# Altium integrated library Linear Technology Power Management Hot Swap Controllers.IntLib: 992 symbols (part 8 of 93)
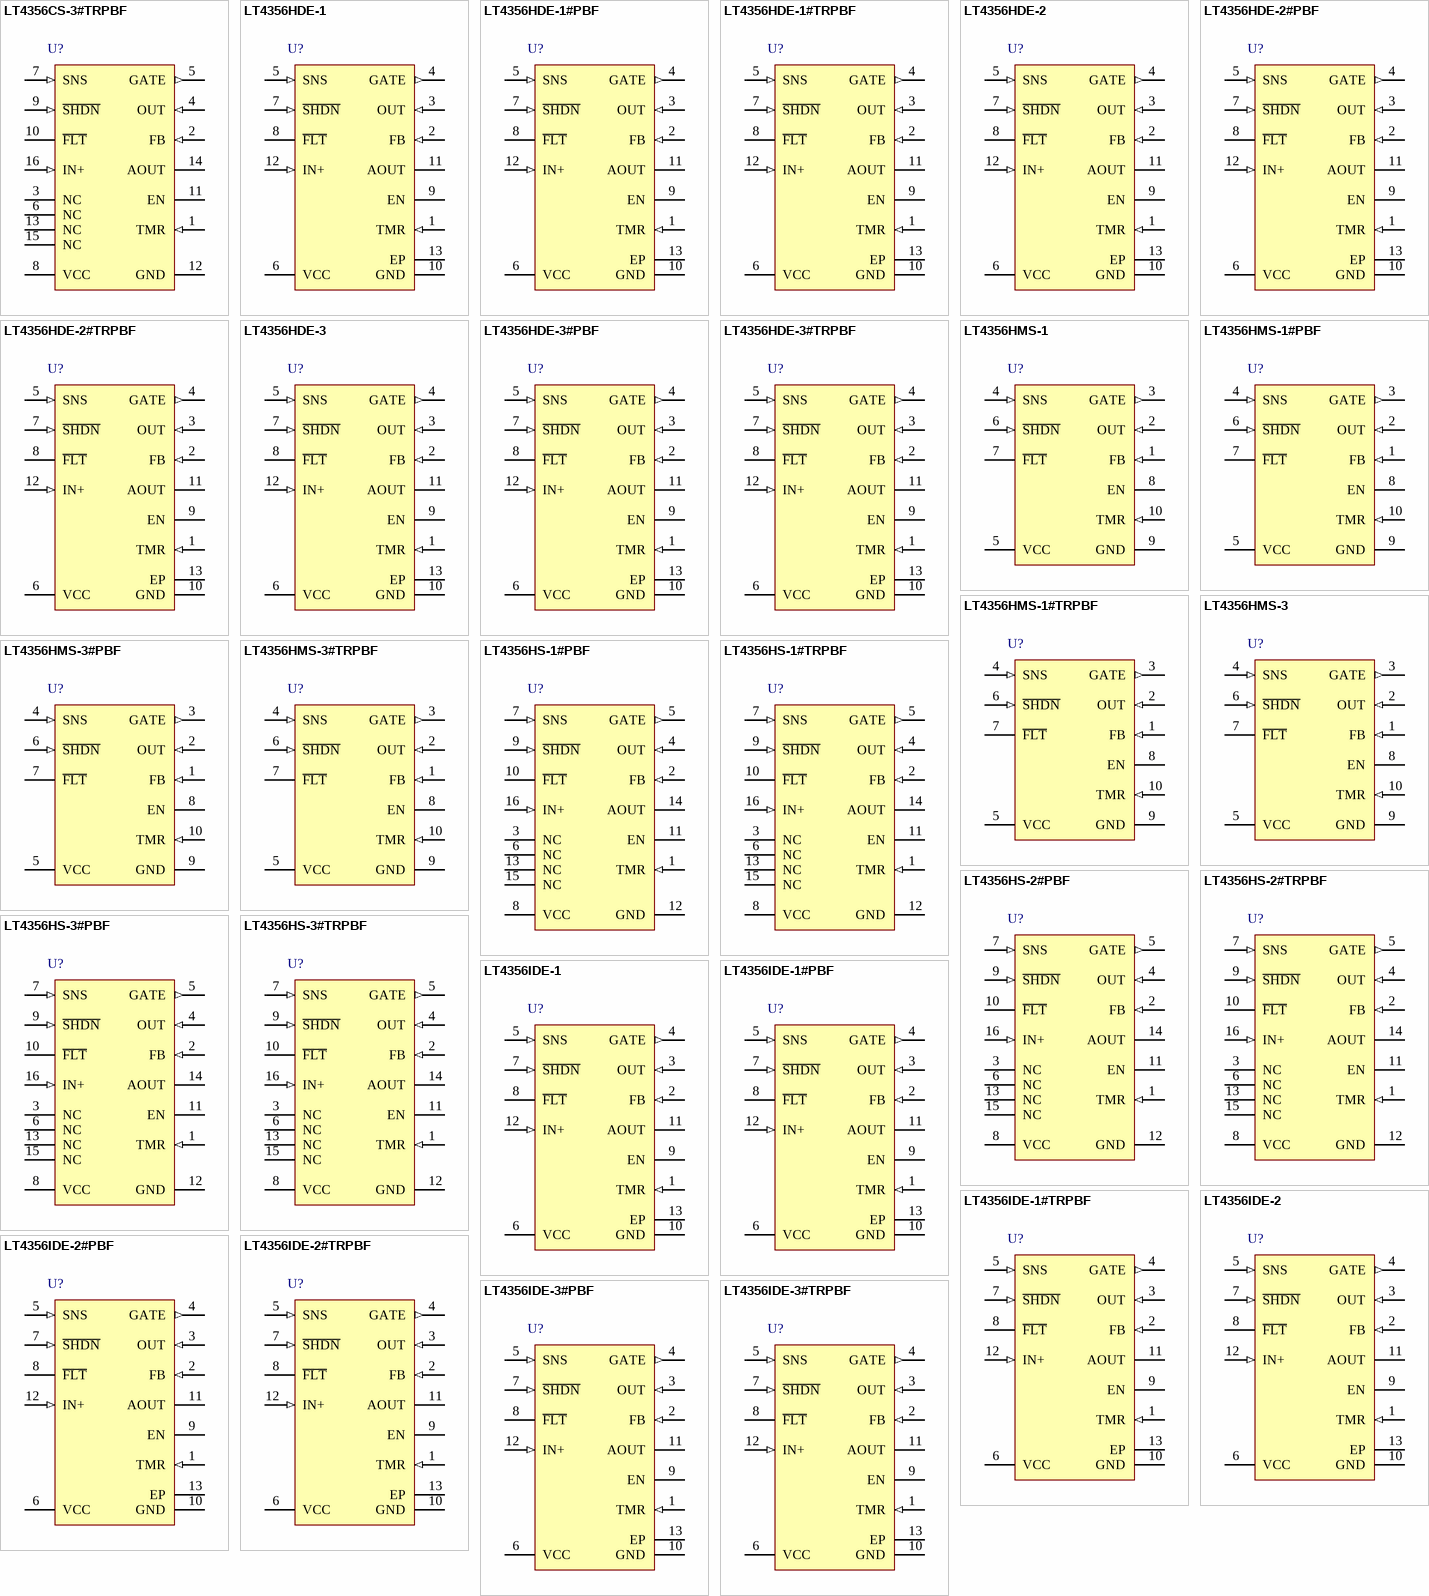
[diagram p44: symbols LT4356CS-3#TRPBF to LT4356IDE-3#TRPBF]

## LT4356HDE-2
designator U?
Surge Stopper, 4 to 80 V Vin, 12-pin SON (DE-UE-12), -40 to 125 degC; Manufacturer: Linear Technology; PartNumber: LT4356HDE-2; Active Limiting: yes; Circuit Breaker Accuracy(%): 10; Circuit Breaker Threshold: 50 mV; Circuit Breakers(#): 1; Extended Temp: C, I, H; Fast Comparator: no; In-Rush Current: Ramp; Vin Range: 4 to 80 V; DatasheetVersion: Rev. A; PackageVersion: Rev. D, 06/2010; PackageReference: DE-UE-12; PackageDescription: 12-Pin Plastic DFN, Body 4 x 3 mm, Pitch 0.5 mm; Supplier 1: Newark; Supplier Part Number 1: 51P4644; Fault: no; Foldback: yes; Power Good: no; Reset: no; RoHS: FALSE; Mounting Technology: Surface Mount; Code_JEDEC: MO-229; ComponentLink1Description: Manufacturer URL; ComponentLink1URL: http://www.linear.com/; ComponentLink2Description: Datasheet; ComponentLink2URL: http://cds.linear.com/docs/en/datasheet/4356fa.pdf; ComponentLink3Description: Package Specification; ComponentLink3URL: http://cds.linear.com/docs/en/packaging/DFN_12_05-08-1695.pdf
footprint LT-DE-UE-12_V (SON, 12-Leads, Body 4x3mm, Pitch 0.5mm, Thermal Pad 3.3x1.7mm)
pins: 1 TMR (in) "Fault Timer Input. Connect a capacitor between this pin and ground to set the times for early warning, fault and cool down periods. The current charging up this pin during fault conditions depends on the voltage difference (See Datasheet)", 2 FB (in) "Voltage Regulator Feedback Input. Connect this pin to the center tap of the output resistive divider connected between the OUT pin and ground. During an overvoltage condition, the GATE pin is servoed to maintain a 1.25V (See Datasheet)", 3 OUT (in) "Output Voltage Sense Input. This pin senses the voltage at the source of the N-channel MOSFET and sets the fault timer current. When the OUT pin voltage reaches 0.7V away from VCC, the EN pin goes high impedance.", 4 GATE (out) "N-Channel MOSFET Gate Drive Output. The GATE pin is pulled up by an internal charge pump current source and clamped to 14V above the OUT pin. Both voltage and current amplifiers control the GATE pin to regulate the output (See Datasheet)", 5 SNS (in) "Current Sense Input. Connect this pin to the output of the current sense resistor. The current limit circuit controls the GATE pin to limit the sense voltage between VCC and SNS pins to 50mV. At the same time the sense (See Datasheet)", 6 VCC (power) "Positive Supply Voltage Input.", 7 ~{SHDN} (in) "Shutdown Control Input. The LT4356 can be shut down to a low current mode by pulling the S\H\D\N\ pin below 0.4V. Pull this pin above 2.1V or disconnect it and allow the internal current source to turn the part back on. The (See Datasheet)", 8 ~{FLT} (hiz) "Open-Collector Fault Output. This pin pulls low after the voltage at the TMR pin has reached the fault threshold of 1.25V. It indicates the pass transistor is about to turn off because either the supply voltage has stayed at (See Datasheet)", 9 EN (hiz) "Open-Collector Enable Output. The EN pin goes high impedance when the voltage at the OUT pin is above (VCC - 0.7V), indicating the external MOSFET is fully on.", 10 GND (power) "Device Ground.", 11 AOUT (oc) "Amplifier Output. Open collector output of the auxiliary amplifier. It is capable of sinking up to 2mA from 80V. The negative input of the amplifier is internally connected to a 1.25V reference.", 12 IN+ (in) "Positive Input of the Auxiliary Amplifier. This amplifier can be used as a level detection comparator with external hysteresis or linear regulator controlling an external PNP transistor. This pin is clamped internally to 7V. (See Datasheet)", 13 EP (power) "Exposed pad may be left open or connected to device ground (GND)."

## LT4356HDE-2#PBF
designator U?
Surge Stopper, 4 to 80 V Vin, 12-pin SON (DE-UE-12), -40 to 125 degC, Pb-Free; Manufacturer: Linear Technology; PartNumber: LT4356HDE-2#PBF; Active Limiting: yes; Circuit Breaker Accuracy(%): 10; Circuit Breaker Threshold: 50 mV; Circuit Breakers(#): 1; Extended Temp: C, I, H; Fast Comparator: no; In-Rush Current: Ramp; Vin Range: 4 to 80 V; DatasheetVersion: Rev. A; PackageVersion: Rev. D, 06/2010; PackageReference: DE-UE-12; PackageDescription: 12-Pin Plastic DFN, Body 4 x 3 mm, Pitch 0.5 mm; Supplier 1: Digi-Key; Supplier Part Number 1: LT4356HDE-2#PBF-ND; Supplier 2: Farnell; Supplier Part Number 2: 2295311; Supplier 3: Newark; Supplier Part Number 3: 51P4645; Fault: no; Foldback: yes; Power Good: no; Reset: no; RoHS: TRUE; Mounting Technology: Surface Mount; Code_JEDEC: MO-229; ComponentLink1Description: Manufacturer URL; ComponentLink1URL: http://www.linear.com/; ComponentLink2Description: Datasheet; ComponentLink2URL: http://cds.linear.com/docs/en/datasheet/4356fa.pdf; ComponentLink3Description: Package Specification; ComponentLink3URL: http://cds.linear.com/docs/en/packaging/DFN_12_05-08-1695.pdf
footprint LT-DE-UE-12_V (SON, 12-Leads, Body 4x3mm, Pitch 0.5mm, Thermal Pad 3.3x1.7mm)
pins: 1 TMR (in) "Fault Timer Input. Connect a capacitor between this pin and ground to set the times for early warning, fault and cool down periods. The current charging up this pin during fault conditions depends on the voltage difference (See Datasheet)", 2 FB (in) "Voltage Regulator Feedback Input. Connect this pin to the center tap of the output resistive divider connected between the OUT pin and ground. During an overvoltage condition, the GATE pin is servoed to maintain a 1.25V (See Datasheet)", 3 OUT (in) "Output Voltage Sense Input. This pin senses the voltage at the source of the N-channel MOSFET and sets the fault timer current. When the OUT pin voltage reaches 0.7V away from VCC, the EN pin goes high impedance.", 4 GATE (out) "N-Channel MOSFET Gate Drive Output. The GATE pin is pulled up by an internal charge pump current source and clamped to 14V above the OUT pin. Both voltage and current amplifiers control the GATE pin to regulate the output (See Datasheet)", 5 SNS (in) "Current Sense Input. Connect this pin to the output of the current sense resistor. The current limit circuit controls the GATE pin to limit the sense voltage between VCC and SNS pins to 50mV. At the same time the sense (See Datasheet)", 6 VCC (power) "Positive Supply Voltage Input.", 7 ~{SHDN} (in) "Shutdown Control Input. The LT4356 can be shut down to a low current mode by pulling the S\H\D\N\ pin below 0.4V. Pull this pin above 2.1V or disconnect it and allow the internal current source to turn the part back on. The (See Datasheet)", 8 ~{FLT} (hiz) "Open-Collector Fault Output. This pin pulls low after the voltage at the TMR pin has reached the fault threshold of 1.25V. It indicates the pass transistor is about to turn off because either the supply voltage has stayed at (See Datasheet)", 9 EN (hiz) "Open-Collector Enable Output. The EN pin goes high impedance when the voltage at the OUT pin is above (VCC - 0.7V), indicating the external MOSFET is fully on.", 10 GND (power) "Device Ground.", 11 AOUT (oc) "Amplifier Output. Open collector output of the auxiliary amplifier. It is capable of sinking up to 2mA from 80V. The negative input of the amplifier is internally connected to a 1.25V reference.", 12 IN+ (in) "Positive Input of the Auxiliary Amplifier. This amplifier can be used as a level detection comparator with external hysteresis or linear regulator controlling an external PNP transistor. This pin is clamped internally to 7V. (See Datasheet)", 13 EP (power) "Exposed pad may be left open or connected to device ground (GND)."

## LT4356HDE-2#TRPBF
designator U?
Surge Stopper, 4 to 80 V Vin, 12-pin SON (DE-UE-12), -40 to 125 degC, Pb-Free, Tape and Reel; Manufacturer: Linear Technology; PartNumber: LT4356HDE-2#TRPBF; Active Limiting: yes; Circuit Breaker Accuracy(%): 10; Circuit Breaker Threshold: 50 mV; Circuit Breakers(#): 1; Extended Temp: C, I, H; Fast Comparator: no; In-Rush Current: Ramp; Vin Range: 4 to 80 V; DatasheetVersion: Rev. A; PackageVersion: Rev. D, 06/2010; PackageReference: DE-UE-12; PackageDescription: 12-Pin Plastic DFN, Body 4 x 3 mm, Pitch 0.5 mm; Supplier 1: Digi-Key; Supplier Part Number 1: LT4356HDE-2#TRPBF-ND; Supplier 2: Newark; Supplier Part Number 2: 51P4646; Fault: no; Foldback: yes; Packing: Tape and Reel; Power Good: no; Reset: no; RoHS: TRUE; Mounting Technology: Surface Mount; Code_JEDEC: MO-229; ComponentLink1Description: Manufacturer URL; ComponentLink1URL: http://www.linear.com/; ComponentLink2Description: Datasheet; ComponentLink2URL: http://cds.linear.com/docs/en/datasheet/4356fa.pdf; ComponentLink3Description: Package Specification; ComponentLink3URL: http://cds.linear.com/docs/en/packaging/DFN_12_05-08-1695.pdf
footprint LT-DE-UE-12_V (SON, 12-Leads, Body 4x3mm, Pitch 0.5mm, Thermal Pad 3.3x1.7mm)
pins: 1 TMR (in) "Fault Timer Input. Connect a capacitor between this pin and ground to set the times for early warning, fault and cool down periods. The current charging up this pin during fault conditions depends on the voltage difference (See Datasheet)", 2 FB (in) "Voltage Regulator Feedback Input. Connect this pin to the center tap of the output resistive divider connected between the OUT pin and ground. During an overvoltage condition, the GATE pin is servoed to maintain a 1.25V (See Datasheet)", 3 OUT (in) "Output Voltage Sense Input. This pin senses the voltage at the source of the N-channel MOSFET and sets the fault timer current. When the OUT pin voltage reaches 0.7V away from VCC, the EN pin goes high impedance.", 4 GATE (out) "N-Channel MOSFET Gate Drive Output. The GATE pin is pulled up by an internal charge pump current source and clamped to 14V above the OUT pin. Both voltage and current amplifiers control the GATE pin to regulate the output (See Datasheet)", 5 SNS (in) "Current Sense Input. Connect this pin to the output of the current sense resistor. The current limit circuit controls the GATE pin to limit the sense voltage between VCC and SNS pins to 50mV. At the same time the sense (See Datasheet)", 6 VCC (power) "Positive Supply Voltage Input.", 7 ~{SHDN} (in) "Shutdown Control Input. The LT4356 can be shut down to a low current mode by pulling the S\H\D\N\ pin below 0.4V. Pull this pin above 2.1V or disconnect it and allow the internal current source to turn the part back on. The (See Datasheet)", 8 ~{FLT} (hiz) "Open-Collector Fault Output. This pin pulls low after the voltage at the TMR pin has reached the fault threshold of 1.25V. It indicates the pass transistor is about to turn off because either the supply voltage has stayed at (See Datasheet)", 9 EN (hiz) "Open-Collector Enable Output. The EN pin goes high impedance when the voltage at the OUT pin is above (VCC - 0.7V), indicating the external MOSFET is fully on.", 10 GND (power) "Device Ground.", 11 AOUT (oc) "Amplifier Output. Open collector output of the auxiliary amplifier. It is capable of sinking up to 2mA from 80V. The negative input of the amplifier is internally connected to a 1.25V reference.", 12 IN+ (in) "Positive Input of the Auxiliary Amplifier. This amplifier can be used as a level detection comparator with external hysteresis or linear regulator controlling an external PNP transistor. This pin is clamped internally to 7V. (See Datasheet)", 13 EP (power) "Exposed pad may be left open or connected to device ground (GND)."

## LT4356HDE-3
designator U?
Surge Stopper with Fault Latchoff, 4 to 80 V Vin, 12-pin SON (DE-UE-12), -40 to 125 degC; Manufacturer: Linear Technology; PartNumber: LT4356HDE-3; Active Limiting: yes; Circuit Breaker Accuracy(%): 10; Circuit Breaker Threshold: 50 mV; Circuit Breakers(#): 1; Extended Temp: C, I, H, MP; Fast Comparator: no; In-Rush Current: Ramp; Vin Range: 4 to 80 V; DatasheetVersion: Rev. B; PackageVersion: Rev. D, 06/2010; PackageReference: DE-UE-12; PackageDescription: 12-Pin Plastic DFN, Body 4 x 3 mm, Pitch 0.5 mm; Supplier 1: Digi-Key; Supplier Part Number 1: LT4356HDE-3-ND; Fault: no; Foldback: yes; Power Good: no; Reset: no; RoHS: FALSE; Mounting Technology: Surface Mount; Code_JEDEC: MO-229; ComponentLink1Description: Manufacturer URL; ComponentLink1URL: http://www.linear.com/; ComponentLink2Description: Datasheet; ComponentLink2URL: http://cds.linear.com/docs/en/datasheet/43563fb.pdf; ComponentLink3Description: Package Specification; ComponentLink3URL: http://cds.linear.com/docs/en/packaging/DFN_12_05-08-1695.pdf
footprint LT-DE-UE-12_V (SON, 12-Leads, Body 4x3mm, Pitch 0.5mm, Thermal Pad 3.3x1.7mm)
pins: 1 TMR (in) "TMR: Fault Timer Input. Connect a capacitor between this pin and ground to set the times for early warning and fault periods. The current charging up this pin during fault conditions depends on the voltage difference between (See Datasheet)", 2 FB (in) "FB: Voltage Regulator Feedback Input. Connect this pin to the center tap of the output resistive divider connected between the OUT pin and ground. During an overvoltage condition, the GATE pin is servoed to maintain a 1.25V (See Datasheet)", 3 OUT (in) "OUT: Output Voltage Sense Input. This pin senses the voltage at the source of the N-channel MOSFET and sets the fault timer current. When the OUT pin voltage reaches 0.7V away from VCC, the EN pin goes high impedance.", 4 GATE (out) "GATE: N-Channel MOSFET Gate Drive Output. The GATE pin is pulled up by an internal charge pump current source and clamped to 14V above the OUT pin. Both voltage and current amplifiers control the GATE pin to regulate the (See Datasheet)", 5 SNS (in) "SNS: Current Sense Input. Connect this pin to the output of the current sense resistor. The current limit circuit controls the GATE pin to limit the sense voltage between VCC and SNS pins to 50mV. At the same time the sense (See Datasheet)", 6 VCC (power) "VCC: Positive Supply Voltage Input. The positive supply input ranges from 4V to 80V for normal operation. It can also be pulled below ground potential by up to 60V during a reverse battery condition, without damaging the (See Datasheet)", 7 ~{SHDN} (in) "S\H\D\N\: Shutdown Control Input. The LT4356-3 can be shut down to a low current mode by pulling the S\H\D\N\ pin below the shutdown threshold of 0.4V. All functions, including the spare amplifier, are turned off. Pull this (See Datasheet)", 8 ~{FLT} (oc) "F\L\T\: Open-Collector Fault Output. This pin pulls low after the voltage at the TMR pin has reached the fault threshold of 1.25V. It indicates the pass transistor is about to turn off because either the supply voltage has (See Datasheet)", 9 EN (hiz) "EN: Open-Collector Enable Output. The EN pin goes high impedance when the voltage at the OUT pin is above (VCC - 0.7V), indicating the external MOSFET is fully on. The state of the pin is latched until the OUT pin voltage (See Datasheet)", 10 GND (power) "GND: Device Ground.", 11 AOUT (oc) "Amplifier Output. Open collector output of the auxiliary amplifier. It is capable of sinking up to 2mA from 80V. The negative input of the amplifier is internally connected to a 1.25V reference.", 12 IN+ (in) "Positive Input of the Auxiliary Amplifier. This amplifier can be used as a level detection comparator with external hysteresis or linear regulator controlling an external PNP transistor. This pin is clamped internally to 7V. (See Datasheet)", 13 EP (power) "Exposed pad may be left open or connected to device ground (GND)."

## LT4356HDE-3#PBF
designator U?
Surge Stopper with Fault Latchoff, 4 to 80 V Vin, 12-pin SON (DE-UE-12), -40 to 125 degC, Pb-Free; Manufacturer: Linear Technology; PartNumber: LT4356HDE-3#PBF; Active Limiting: yes; Circuit Breaker Accuracy(%): 10; Circuit Breaker Threshold: 50 mV; Circuit Breakers(#): 1; Extended Temp: C, I, H, MP; Fast Comparator: no; In-Rush Current: Ramp; Vin Range: 4 to 80 V; DatasheetVersion: Rev. B; PackageVersion: Rev. D, 06/2010; PackageReference: DE-UE-12; PackageDescription: 12-Pin Plastic DFN, Body 4 x 3 mm, Pitch 0.5 mm; Supplier 1: Digi-Key; Supplier Part Number 1: LT4356HDE-3#PBF-ND; Supplier 2: Farnell; Supplier Part Number 2: 2295312; Supplier 3: Farnell; Supplier Part Number 3: 1792372; Supplier 4: Newark; Supplier Part Number 4: 63R6873; Fault: no; Foldback: yes; Power Good: no; Reset: no; RoHS: TRUE; Mounting Technology: Surface Mount; Code_JEDEC: MO-229; ComponentLink1Description: Manufacturer URL; ComponentLink1URL: http://www.linear.com/; ComponentLink2Description: Datasheet; ComponentLink2URL: http://cds.linear.com/docs/en/datasheet/43563fb.pdf; ComponentLink3Description: Package Specification; ComponentLink3URL: http://cds.linear.com/docs/en/packaging/DFN_12_05-08-1695.pdf
footprint LT-DE-UE-12_V (SON, 12-Leads, Body 4x3mm, Pitch 0.5mm, Thermal Pad 3.3x1.7mm)
pins: 1 TMR (in) "TMR: Fault Timer Input. Connect a capacitor between this pin and ground to set the times for early warning and fault periods. The current charging up this pin during fault conditions depends on the voltage difference between (See Datasheet)", 2 FB (in) "FB: Voltage Regulator Feedback Input. Connect this pin to the center tap of the output resistive divider connected between the OUT pin and ground. During an overvoltage condition, the GATE pin is servoed to maintain a 1.25V (See Datasheet)", 3 OUT (in) "OUT: Output Voltage Sense Input. This pin senses the voltage at the source of the N-channel MOSFET and sets the fault timer current. When the OUT pin voltage reaches 0.7V away from VCC, the EN pin goes high impedance.", 4 GATE (out) "GATE: N-Channel MOSFET Gate Drive Output. The GATE pin is pulled up by an internal charge pump current source and clamped to 14V above the OUT pin. Both voltage and current amplifiers control the GATE pin to regulate the (See Datasheet)", 5 SNS (in) "SNS: Current Sense Input. Connect this pin to the output of the current sense resistor. The current limit circuit controls the GATE pin to limit the sense voltage between VCC and SNS pins to 50mV. At the same time the sense (See Datasheet)", 6 VCC (power) "VCC: Positive Supply Voltage Input. The positive supply input ranges from 4V to 80V for normal operation. It can also be pulled below ground potential by up to 60V during a reverse battery condition, without damaging the (See Datasheet)", 7 ~{SHDN} (in) "S\H\D\N\: Shutdown Control Input. The LT4356-3 can be shut down to a low current mode by pulling the S\H\D\N\ pin below the shutdown threshold of 0.4V. All functions, including the spare amplifier, are turned off. Pull this (See Datasheet)", 8 ~{FLT} (oc) "F\L\T\: Open-Collector Fault Output. This pin pulls low after the voltage at the TMR pin has reached the fault threshold of 1.25V. It indicates the pass transistor is about to turn off because either the supply voltage has (See Datasheet)", 9 EN (hiz) "EN: Open-Collector Enable Output. The EN pin goes high impedance when the voltage at the OUT pin is above (VCC - 0.7V), indicating the external MOSFET is fully on. The state of the pin is latched until the OUT pin voltage (See Datasheet)", 10 GND (power) "GND: Device Ground.", 11 AOUT (oc) "Amplifier Output. Open collector output of the auxiliary amplifier. It is capable of sinking up to 2mA from 80V. The negative input of the amplifier is internally connected to a 1.25V reference.", 12 IN+ (in) "Positive Input of the Auxiliary Amplifier. This amplifier can be used as a level detection comparator with external hysteresis or linear regulator controlling an external PNP transistor. This pin is clamped internally to 7V. (See Datasheet)", 13 EP (power) "Exposed pad may be left open or connected to device ground (GND)."

## LT4356HDE-3#TRPBF
designator U?
Surge Stopper with Fault Latchoff, 4 to 80 V Vin, 12-pin SON (DE-UE-12), -40 to 125 degC, Pb-Free, Tape and Reel; Manufacturer: Linear Technology; PartNumber: LT4356HDE-3#TRPBF; Active Limiting: yes; Circuit Breaker Accuracy(%): 10; Circuit Breaker Threshold: 50 mV; Circuit Breakers(#): 1; Extended Temp: C, I, H, MP; Fast Comparator: no; In-Rush Current: Ramp; Vin Range: 4 to 80 V; DatasheetVersion: Rev. B; PackageVersion: Rev. D, 06/2010; PackageReference: DE-UE-12; PackageDescription: 12-Pin Plastic DFN, Body 4 x 3 mm, Pitch 0.5 mm; Supplier 1: Digi-Key; Supplier Part Number 1: LT4356HDE-3#TRPBF-ND; Fault: no; Foldback: yes; Packing: Tape and Reel; Power Good: no; Reset: no; RoHS: TRUE; Mounting Technology: Surface Mount; Code_JEDEC: MO-229; ComponentLink1Description: Manufacturer URL; ComponentLink1URL: http://www.linear.com/; ComponentLink2Description: Datasheet; ComponentLink2URL: http://cds.linear.com/docs/en/datasheet/43563fb.pdf; ComponentLink3Description: Package Specification; ComponentLink3URL: http://cds.linear.com/docs/en/packaging/DFN_12_05-08-1695.pdf
footprint LT-DE-UE-12_V (SON, 12-Leads, Body 4x3mm, Pitch 0.5mm, Thermal Pad 3.3x1.7mm)
pins: 1 TMR (in) "TMR: Fault Timer Input. Connect a capacitor between this pin and ground to set the times for early warning and fault periods. The current charging up this pin during fault conditions depends on the voltage difference between (See Datasheet)", 2 FB (in) "FB: Voltage Regulator Feedback Input. Connect this pin to the center tap of the output resistive divider connected between the OUT pin and ground. During an overvoltage condition, the GATE pin is servoed to maintain a 1.25V (See Datasheet)", 3 OUT (in) "OUT: Output Voltage Sense Input. This pin senses the voltage at the source of the N-channel MOSFET and sets the fault timer current. When the OUT pin voltage reaches 0.7V away from VCC, the EN pin goes high impedance.", 4 GATE (out) "GATE: N-Channel MOSFET Gate Drive Output. The GATE pin is pulled up by an internal charge pump current source and clamped to 14V above the OUT pin. Both voltage and current amplifiers control the GATE pin to regulate the (See Datasheet)", 5 SNS (in) "SNS: Current Sense Input. Connect this pin to the output of the current sense resistor. The current limit circuit controls the GATE pin to limit the sense voltage between VCC and SNS pins to 50mV. At the same time the sense (See Datasheet)", 6 VCC (power) "VCC: Positive Supply Voltage Input. The positive supply input ranges from 4V to 80V for normal operation. It can also be pulled below ground potential by up to 60V during a reverse battery condition, without damaging the (See Datasheet)", 7 ~{SHDN} (in) "S\H\D\N\: Shutdown Control Input. The LT4356-3 can be shut down to a low current mode by pulling the S\H\D\N\ pin below the shutdown threshold of 0.4V. All functions, including the spare amplifier, are turned off. Pull this (See Datasheet)", 8 ~{FLT} (oc) "F\L\T\: Open-Collector Fault Output. This pin pulls low after the voltage at the TMR pin has reached the fault threshold of 1.25V. It indicates the pass transistor is about to turn off because either the supply voltage has (See Datasheet)", 9 EN (hiz) "EN: Open-Collector Enable Output. The EN pin goes high impedance when the voltage at the OUT pin is above (VCC - 0.7V), indicating the external MOSFET is fully on. The state of the pin is latched until the OUT pin voltage (See Datasheet)", 10 GND (power) "GND: Device Ground.", 11 AOUT (oc) "Amplifier Output. Open collector output of the auxiliary amplifier. It is capable of sinking up to 2mA from 80V. The negative input of the amplifier is internally connected to a 1.25V reference.", 12 IN+ (in) "Positive Input of the Auxiliary Amplifier. This amplifier can be used as a level detection comparator with external hysteresis or linear regulator controlling an external PNP transistor. This pin is clamped internally to 7V. (See Datasheet)", 13 EP (power) "Exposed pad may be left open or connected to device ground (GND)."

## LT4356HMS-1
designator U?
Surge Stopper, 4 to 80 V Vin, 10-pin SOP (MS-10), -40 to 125 degC; Manufacturer: Linear Technology; PartNumber: LT4356HMS-1; Active Limiting: yes; Circuit Breaker Accuracy(%): 10; Circuit Breaker Threshold: 50 mV; Circuit Breakers(#): 1; Extended Temp: C, I, H; Fast Comparator: no; In-Rush Current: Ramp; Vin Range: 4 to 80 V; DatasheetVersion: Rev. A; PackageVersion: Rev. E, 06/2010; PackageReference: MS-10; PackageDescription: 10-Pin Plastic MSOP, Body 3 x 3 mm, Pitch 0.5 mm; Supplier 1: Newark; Supplier Part Number 1: 57M8722; Fault: no; Foldback: yes; Power Good: no; Reset: no; RoHS: FALSE; Mounting Technology: Surface Mount; ComponentLink1Description: Manufacturer URL; ComponentLink1URL: http://www.linear.com/; ComponentLink2Description: Datasheet; ComponentLink2URL: http://cds.linear.com/docs/en/datasheet/4356fa.pdf; ComponentLink3Description: Package Specification; ComponentLink3URL: http://cds.linear.com/docs/en/packaging/05081661_F_MS.pdf
footprint LT-MS-10_N (SOP, 10-Leads, Body 3.1x3.1mm, Pitch 0.5mm, IPC Medium Density)
footprint LT-MS-10_L (SOP, 10-Leads, Body 3.1x3.1mm, Pitch 0.5mm, IPC High Density)
footprint LT-MS-10_M (SOP, 10-Leads, Body 3.1x3.1mm, Pitch 0.5mm, IPC Low Density)
pins: 1 FB (in) "Voltage Regulator Feedback Input. Connect this pin to the center tap of the output resistive divider connected between the OUT pin and ground. During an overvoltage condition, the GATE pin is servoed to maintain a 1.25V (See Datasheet)", 2 OUT (in) "Output Voltage Sense Input. This pin senses the voltage at the source of the N-channel MOSFET and sets the fault timer current. When the OUT pin voltage reaches 0.7V away from VCC, the EN pin goes high impedance.", 3 GATE (out) "N-Channel MOSFET Gate Drive Output. The GATE pin is pulled up by an internal charge pump current source and clamped to 14V above the OUT pin. Both voltage and current amplifiers control the GATE pin to regulate the output (See Datasheet)", 4 SNS (in) "Current Sense Input. Connect this pin to the output of the current sense resistor. The current limit circuit controls the GATE pin to limit the sense voltage between VCC and SNS pins to 50mV. At the same time the sense (See Datasheet)", 5 VCC (power) "Positive Supply Voltage Input. The positive supply input ranges from 4V to 80V for normal operation. It can also be pulled below ground potential by up to 60V during a reverse battery condition, without damaging the part. (See Datasheet)", 6 ~{SHDN} (in) "Shutdown Control Input. The LT4356 can be shut down to a low current mode by pulling the S\H\D\N\ pin below 0.4V. Pull this pin above 2.1V or disconnect it and allow the internal current source to turn the part back on. The (See Datasheet)", 7 ~{FLT} (hiz) "Open-Collector Fault Output. This pin pulls low after the voltage at the TMR pin has reached the fault threshold of 1.25V. It indicates the pass transistor is about to turn off because either the supply voltage has stayed at (See Datasheet)", 8 EN (hiz) "Open-Collector Enable Output. The EN pin goes high impedance when the voltage at the OUT pin is above (VCC - 0.7V), indicating the external MOSFET is fully on. The state of the pin is latched until the OUT pin voltage resets (See Datasheet)", 9 GND (power) "Device Ground.", 10 TMR (in) "Fault Timer Input. Connect a capacitor between this pin and ground to set the times for early warning, fault and cool down periods. The current charging up this pin during fault conditions depends on the voltage difference (See Datasheet)"

## LT4356HMS-1#PBF
designator U?
Surge Stopper, 4 to 80 V Vin, 10-pin SOP (MS-10), -40 to 125 degC, Pb-Free; Manufacturer: Linear Technology; PartNumber: LT4356HMS-1#PBF; Active Limiting: yes; Circuit Breaker Accuracy(%): 10; Circuit Breaker Threshold: 50 mV; Circuit Breakers(#): 1; Extended Temp: C, I, H; Fast Comparator: no; In-Rush Current: Ramp; Vin Range: 4 to 80 V; DatasheetVersion: Rev. A; PackageVersion: Rev. E, 06/2010; PackageReference: MS-10; PackageDescription: 10-Pin Plastic MSOP, Body 3 x 3 mm, Pitch 0.5 mm; Supplier 1: Digi-Key; Supplier Part Number 1: LT4356HMS-1#PBF-ND; Supplier 2: Farnell; Supplier Part Number 2: 1432703; Supplier 3: Newark; Supplier Part Number 3: 57M8723; Fault: no; Foldback: yes; Power Good: no; Reset: no; RoHS: TRUE; Mounting Technology: Surface Mount; ComponentLink1Description: Manufacturer URL; ComponentLink1URL: http://www.linear.com/; ComponentLink2Description: Datasheet; ComponentLink2URL: http://cds.linear.com/docs/en/datasheet/4356fa.pdf; ComponentLink3Description: Package Specification; ComponentLink3URL: http://cds.linear.com/docs/en/packaging/05081661_F_MS.pdf
footprint LT-MS-10_N (SOP, 10-Leads, Body 3.1x3.1mm, Pitch 0.5mm, IPC Medium Density)
footprint LT-MS-10_L (SOP, 10-Leads, Body 3.1x3.1mm, Pitch 0.5mm, IPC High Density)
footprint LT-MS-10_M (SOP, 10-Leads, Body 3.1x3.1mm, Pitch 0.5mm, IPC Low Density)
pins: 1 FB (in) "Voltage Regulator Feedback Input. Connect this pin to the center tap of the output resistive divider connected between the OUT pin and ground. During an overvoltage condition, the GATE pin is servoed to maintain a 1.25V (See Datasheet)", 2 OUT (in) "Output Voltage Sense Input. This pin senses the voltage at the source of the N-channel MOSFET and sets the fault timer current. When the OUT pin voltage reaches 0.7V away from VCC, the EN pin goes high impedance.", 3 GATE (out) "N-Channel MOSFET Gate Drive Output. The GATE pin is pulled up by an internal charge pump current source and clamped to 14V above the OUT pin. Both voltage and current amplifiers control the GATE pin to regulate the output (See Datasheet)", 4 SNS (in) "Current Sense Input. Connect this pin to the output of the current sense resistor. The current limit circuit controls the GATE pin to limit the sense voltage between VCC and SNS pins to 50mV. At the same time the sense (See Datasheet)", 5 VCC (power) "Positive Supply Voltage Input. The positive supply input ranges from 4V to 80V for normal operation. It can also be pulled below ground potential by up to 60V during a reverse battery condition, without damaging the part. (See Datasheet)", 6 ~{SHDN} (in) "Shutdown Control Input. The LT4356 can be shut down to a low current mode by pulling the S\H\D\N\ pin below 0.4V. Pull this pin above 2.1V or disconnect it and allow the internal current source to turn the part back on. The (See Datasheet)", 7 ~{FLT} (hiz) "Open-Collector Fault Output. This pin pulls low after the voltage at the TMR pin has reached the fault threshold of 1.25V. It indicates the pass transistor is about to turn off because either the supply voltage has stayed at (See Datasheet)", 8 EN (hiz) "Open-Collector Enable Output. The EN pin goes high impedance when the voltage at the OUT pin is above (VCC - 0.7V), indicating the external MOSFET is fully on. The state of the pin is latched until the OUT pin voltage resets (See Datasheet)", 9 GND (power) "Device Ground.", 10 TMR (in) "Fault Timer Input. Connect a capacitor between this pin and ground to set the times for early warning, fault and cool down periods. The current charging up this pin during fault conditions depends on the voltage difference (See Datasheet)"

## LT4356HMS-1#TRPBF
designator U?
Surge Stopper, 4 to 80 V Vin, 10-pin SOP (MS-10), -40 to 125 degC, Pb-Free, Tape and Reel; Manufacturer: Linear Technology; PartNumber: LT4356HMS-1#TRPBF; Active Limiting: yes; Circuit Breaker Accuracy(%): 10; Circuit Breaker Threshold: 50 mV; Circuit Breakers(#): 1; Extended Temp: C, I, H; Fast Comparator: no; In-Rush Current: Ramp; Vin Range: 4 to 80 V; DatasheetVersion: Rev. A; PackageVersion: Rev. E, 06/2010; PackageReference: MS-10; PackageDescription: 10-Pin Plastic MSOP, Body 3 x 3 mm, Pitch 0.5 mm; Supplier 1: Digi-Key; Supplier Part Number 1: LT4356HMS-1#TRPBF-ND; Supplier 2: Farnell; Supplier Part Number 2: 2115914; Supplier 3: Newark; Supplier Part Number 3: 57M8724; Fault: no; Foldback: yes; Packing: Tape and Reel; Power Good: no; Reset: no; RoHS: TRUE; Mounting Technology: Surface Mount; ComponentLink1Description: Manufacturer URL; ComponentLink1URL: http://www.linear.com/; ComponentLink2Description: Datasheet; ComponentLink2URL: http://cds.linear.com/docs/en/datasheet/4356fa.pdf; ComponentLink3Description: Package Specification; ComponentLink3URL: http://cds.linear.com/docs/en/packaging/05081661_F_MS.pdf
footprint LT-MS-10_N (SOP, 10-Leads, Body 3.1x3.1mm, Pitch 0.5mm, IPC Medium Density)
footprint LT-MS-10_L (SOP, 10-Leads, Body 3.1x3.1mm, Pitch 0.5mm, IPC High Density)
footprint LT-MS-10_M (SOP, 10-Leads, Body 3.1x3.1mm, Pitch 0.5mm, IPC Low Density)
pins: 1 FB (in) "Voltage Regulator Feedback Input. Connect this pin to the center tap of the output resistive divider connected between the OUT pin and ground. During an overvoltage condition, the GATE pin is servoed to maintain a 1.25V (See Datasheet)", 2 OUT (in) "Output Voltage Sense Input. This pin senses the voltage at the source of the N-channel MOSFET and sets the fault timer current. When the OUT pin voltage reaches 0.7V away from VCC, the EN pin goes high impedance.", 3 GATE (out) "N-Channel MOSFET Gate Drive Output. The GATE pin is pulled up by an internal charge pump current source and clamped to 14V above the OUT pin. Both voltage and current amplifiers control the GATE pin to regulate the output (See Datasheet)", 4 SNS (in) "Current Sense Input. Connect this pin to the output of the current sense resistor. The current limit circuit controls the GATE pin to limit the sense voltage between VCC and SNS pins to 50mV. At the same time the sense (See Datasheet)", 5 VCC (power) "Positive Supply Voltage Input. The positive supply input ranges from 4V to 80V for normal operation. It can also be pulled below ground potential by up to 60V during a reverse battery condition, without damaging the part. (See Datasheet)", 6 ~{SHDN} (in) "Shutdown Control Input. The LT4356 can be shut down to a low current mode by pulling the S\H\D\N\ pin below 0.4V. Pull this pin above 2.1V or disconnect it and allow the internal current source to turn the part back on. The (See Datasheet)", 7 ~{FLT} (hiz) "Open-Collector Fault Output. This pin pulls low after the voltage at the TMR pin has reached the fault threshold of 1.25V. It indicates the pass transistor is about to turn off because either the supply voltage has stayed at (See Datasheet)", 8 EN (hiz) "Open-Collector Enable Output. The EN pin goes high impedance when the voltage at the OUT pin is above (VCC - 0.7V), indicating the external MOSFET is fully on. The state of the pin is latched until the OUT pin voltage resets (See Datasheet)", 9 GND (power) "Device Ground.", 10 TMR (in) "Fault Timer Input. Connect a capacitor between this pin and ground to set the times for early warning, fault and cool down periods. The current charging up this pin during fault conditions depends on the voltage difference (See Datasheet)"

## LT4356HMS-3
designator U?
Surge Stopper with Fault Latchoff, 4 to 80 V Vin, 10-pin SOP (MS-10), -40 to 125 degC; Manufacturer: Linear Technology; PartNumber: LT4356HMS-3; Active Limiting: yes; Circuit Breaker Accuracy(%): 10; Circuit Breaker Threshold: 50 mV; Circuit Breakers(#): 1; Extended Temp: C, I, H, MP; Fast Comparator: no; In-Rush Current: Ramp; Vin Range: 4 to 80 V; DatasheetVersion: Rev. B; PackageVersion: Rev. E, 06/2010; PackageReference: MS-10; PackageDescription: 10-Pin Plastic MSOP, Body 3 x 3 mm, Pitch 0.5 mm; Fault: no; Foldback: yes; Power Good: no; Reset: no; RoHS: FALSE; Mounting Technology: Surface Mount; ComponentLink1Description: Manufacturer URL; ComponentLink1URL: http://www.linear.com/; ComponentLink2Description: Datasheet; ComponentLink2URL: http://cds.linear.com/docs/en/datasheet/43563fb.pdf; ComponentLink3Description: Package Specification; ComponentLink3URL: http://cds.linear.com/docs/en/packaging/05081661_F_MS.pdf
footprint LT-MS-10_N (SOP, 10-Leads, Body 3.1x3.1mm, Pitch 0.5mm, IPC Medium Density)
footprint LT-MS-10_L (SOP, 10-Leads, Body 3.1x3.1mm, Pitch 0.5mm, IPC High Density)
footprint LT-MS-10_M (SOP, 10-Leads, Body 3.1x3.1mm, Pitch 0.5mm, IPC Low Density)
pins: 1 FB (in) "FB: Voltage Regulator Feedback Input. Connect this pin to the center tap of the output resistive divider connected between the OUT pin and ground. During an overvoltage condition, the GATE pin is servoed to maintain a 1.25V (See Datasheet)", 2 OUT (in) "OUT: Output Voltage Sense Input. This pin senses the voltage at the source of the N-channel MOSFET and sets the fault timer current. When the OUT pin voltage reaches 0.7V away from VCC, the EN pin goes high impedance.", 3 GATE (out) "GATE: N-Channel MOSFET Gate Drive Output. The GATE pin is pulled up by an internal charge pump current source and clamped to 14V above the OUT pin. Both voltage and current amplifiers control the GATE pin to regulate the (See Datasheet)", 4 SNS (in) "SNS: Current Sense Input. Connect this pin to the output of the current sense resistor. The current limit circuit controls the GATE pin to limit the sense voltage between VCC and SNS pins to 50mV. At the same time the sense (See Datasheet)", 5 VCC (power) "VCC: Positive Supply Voltage Input. The positive supply input ranges from 4V to 80V for normal operation. It can also be pulled below ground potential by up to 60V during a reverse battery condition, without damaging the (See Datasheet)", 6 ~{SHDN} (in) "S\H\D\N\: Shutdown Control Input. The LT4356 can be shut down to a low current mode by pulling the S\H\D\N\ pin below 0.4V. Pull this pin above 2.1V or disconnect it and allow the internal current source to turn the part (See Datasheet)", 7 ~{FLT} (oc) "F\L\T\: Open-Collector Fault Output. This pin pulls low after the voltage at the TMR pin has reached the fault threshold of 1.25V. It indicates the pass transistor is about to turn off because either the supply voltage has (See Datasheet)", 8 EN (hiz) "EN: Open-Collector Enable Output. The EN pin goes high impedance when the voltage at the OUT pin is above (VCC - 0.7V), indicating the external MOSFET is fully on. The state of the pin is latched until the OUT pin voltage (See Datasheet)", 9 GND (power) "GND: Device Ground.", 10 TMR (in) "TMR: Fault Timer Input. Connect a capacitor between this pin and ground to set the times for early warning, fault and cool down periods. The current charging up this pin during fault conditions depends on the voltage (See Datasheet)"

## LT4356HMS-3#PBF
designator U?
Surge Stopper with Fault Latchoff, 4 to 80 V Vin, 10-pin SOP (MS-10), -40 to 125 degC, Pb-Free; Manufacturer: Linear Technology; PartNumber: LT4356HMS-3#PBF; Active Limiting: yes; Circuit Breaker Accuracy(%): 10; Circuit Breaker Threshold: 50 mV; Circuit Breakers(#): 1; Extended Temp: C, I, H, MP; Fast Comparator: no; In-Rush Current: Ramp; Vin Range: 4 to 80 V; DatasheetVersion: Rev. B; PackageVersion: Rev. E, 06/2010; PackageReference: MS-10; PackageDescription: 10-Pin Plastic MSOP, Body 3 x 3 mm, Pitch 0.5 mm; Supplier 1: Digi-Key; Supplier Part Number 1: LT4356HMS-3#PBF-ND; Supplier 2: Farnell; Supplier Part Number 2: 1839149; Supplier 3: Newark; Supplier Part Number 3: 63R6875; Fault: no; Foldback: yes; Power Good: no; Reset: no; RoHS: TRUE; Mounting Technology: Surface Mount; ComponentLink1Description: Manufacturer URL; ComponentLink1URL: http://www.linear.com/; ComponentLink2Description: Datasheet; ComponentLink2URL: http://cds.linear.com/docs/en/datasheet/43563fb.pdf; ComponentLink3Description: Package Specification; ComponentLink3URL: http://cds.linear.com/docs/en/packaging/05081661_F_MS.pdf
footprint LT-MS-10_N (SOP, 10-Leads, Body 3.1x3.1mm, Pitch 0.5mm, IPC Medium Density)
footprint LT-MS-10_L (SOP, 10-Leads, Body 3.1x3.1mm, Pitch 0.5mm, IPC High Density)
footprint LT-MS-10_M (SOP, 10-Leads, Body 3.1x3.1mm, Pitch 0.5mm, IPC Low Density)
pins: 1 FB (in) "FB: Voltage Regulator Feedback Input. Connect this pin to the center tap of the output resistive divider connected between the OUT pin and ground. During an overvoltage condition, the GATE pin is servoed to maintain a 1.25V (See Datasheet)", 2 OUT (in) "OUT: Output Voltage Sense Input. This pin senses the voltage at the source of the N-channel MOSFET and sets the fault timer current. When the OUT pin voltage reaches 0.7V away from VCC, the EN pin goes high impedance.", 3 GATE (out) "GATE: N-Channel MOSFET Gate Drive Output. The GATE pin is pulled up by an internal charge pump current source and clamped to 14V above the OUT pin. Both voltage and current amplifiers control the GATE pin to regulate the (See Datasheet)", 4 SNS (in) "SNS: Current Sense Input. Connect this pin to the output of the current sense resistor. The current limit circuit controls the GATE pin to limit the sense voltage between VCC and SNS pins to 50mV. At the same time the sense (See Datasheet)", 5 VCC (power) "VCC: Positive Supply Voltage Input. The positive supply input ranges from 4V to 80V for normal operation. It can also be pulled below ground potential by up to 60V during a reverse battery condition, without damaging the (See Datasheet)", 6 ~{SHDN} (in) "S\H\D\N\: Shutdown Control Input. The LT4356 can be shut down to a low current mode by pulling the S\H\D\N\ pin below 0.4V. Pull this pin above 2.1V or disconnect it and allow the internal current source to turn the part (See Datasheet)", 7 ~{FLT} (oc) "F\L\T\: Open-Collector Fault Output. This pin pulls low after the voltage at the TMR pin has reached the fault threshold of 1.25V. It indicates the pass transistor is about to turn off because either the supply voltage has (See Datasheet)", 8 EN (hiz) "EN: Open-Collector Enable Output. The EN pin goes high impedance when the voltage at the OUT pin is above (VCC - 0.7V), indicating the external MOSFET is fully on. The state of the pin is latched until the OUT pin voltage (See Datasheet)", 9 GND (power) "GND: Device Ground.", 10 TMR (in) "TMR: Fault Timer Input. Connect a capacitor between this pin and ground to set the times for early warning, fault and cool down periods. The current charging up this pin during fault conditions depends on the voltage (See Datasheet)"

## LT4356HMS-3#TRPBF
designator U?
Surge Stopper with Fault Latchoff, 4 to 80 V Vin, 10-pin SOP (MS-10), -40 to 125 degC, Pb-Free, Tape and Reel; Manufacturer: Linear Technology; PartNumber: LT4356HMS-3#TRPBF; Active Limiting: yes; Circuit Breaker Accuracy(%): 10; Circuit Breaker Threshold: 50 mV; Circuit Breakers(#): 1; Extended Temp: C, I, H, MP; Fast Comparator: no; In-Rush Current: Ramp; Vin Range: 4 to 80 V; DatasheetVersion: Rev. B; PackageVersion: Rev. E, 06/2010; PackageReference: MS-10; PackageDescription: 10-Pin Plastic MSOP, Body 3 x 3 mm, Pitch 0.5 mm; Supplier 1: Digi-Key; Supplier Part Number 1: LT4356HMS-3#TRPBF-ND; Fault: no; Foldback: yes; Packing: Tape and Reel; Power Good: no; Reset: no; RoHS: TRUE; Mounting Technology: Surface Mount; ComponentLink1Description: Manufacturer URL; ComponentLink1URL: http://www.linear.com/; ComponentLink2Description: Datasheet; ComponentLink2URL: http://cds.linear.com/docs/en/datasheet/43563fb.pdf; ComponentLink3Description: Package Specification; ComponentLink3URL: http://cds.linear.com/docs/en/packaging/05081661_F_MS.pdf
footprint LT-MS-10_N (SOP, 10-Leads, Body 3.1x3.1mm, Pitch 0.5mm, IPC Medium Density)
footprint LT-MS-10_L (SOP, 10-Leads, Body 3.1x3.1mm, Pitch 0.5mm, IPC High Density)
footprint LT-MS-10_M (SOP, 10-Leads, Body 3.1x3.1mm, Pitch 0.5mm, IPC Low Density)
pins: 1 FB (in) "FB: Voltage Regulator Feedback Input. Connect this pin to the center tap of the output resistive divider connected between the OUT pin and ground. During an overvoltage condition, the GATE pin is servoed to maintain a 1.25V (See Datasheet)", 2 OUT (in) "OUT: Output Voltage Sense Input. This pin senses the voltage at the source of the N-channel MOSFET and sets the fault timer current. When the OUT pin voltage reaches 0.7V away from VCC, the EN pin goes high impedance.", 3 GATE (out) "GATE: N-Channel MOSFET Gate Drive Output. The GATE pin is pulled up by an internal charge pump current source and clamped to 14V above the OUT pin. Both voltage and current amplifiers control the GATE pin to regulate the (See Datasheet)", 4 SNS (in) "SNS: Current Sense Input. Connect this pin to the output of the current sense resistor. The current limit circuit controls the GATE pin to limit the sense voltage between VCC and SNS pins to 50mV. At the same time the sense (See Datasheet)", 5 VCC (power) "VCC: Positive Supply Voltage Input. The positive supply input ranges from 4V to 80V for normal operation. It can also be pulled below ground potential by up to 60V during a reverse battery condition, without damaging the (See Datasheet)", 6 ~{SHDN} (in) "S\H\D\N\: Shutdown Control Input. The LT4356 can be shut down to a low current mode by pulling the S\H\D\N\ pin below 0.4V. Pull this pin above 2.1V or disconnect it and allow the internal current source to turn the part (See Datasheet)", 7 ~{FLT} (oc) "F\L\T\: Open-Collector Fault Output. This pin pulls low after the voltage at the TMR pin has reached the fault threshold of 1.25V. It indicates the pass transistor is about to turn off because either the supply voltage has (See Datasheet)", 8 EN (hiz) "EN: Open-Collector Enable Output. The EN pin goes high impedance when the voltage at the OUT pin is above (VCC - 0.7V), indicating the external MOSFET is fully on. The state of the pin is latched until the OUT pin voltage (See Datasheet)", 9 GND (power) "GND: Device Ground.", 10 TMR (in) "TMR: Fault Timer Input. Connect a capacitor between this pin and ground to set the times for early warning, fault and cool down periods. The current charging up this pin during fault conditions depends on the voltage (See Datasheet)"

## LT4356HS-1#PBF
designator U?
Surge Stopper, 4 to 80 V Vin, 16-pin SOP (S-16), -40 to 125 degC, Pb-Free; Manufacturer: Linear Technology; PartNumber: LT4356HS-1#PBF; Active Limiting: yes; Circuit Breaker Accuracy(%): 10; Circuit Breaker Threshold: 50 mV; Circuit Breakers(#): 1; Extended Temp: C, I, H; Fast Comparator: no; In-Rush Current: Ramp; Vin Range: 4 to 80 V; DatasheetVersion: Rev. A; PackageVersion: Rev. G, 05/2012; PackageReference: S-16; PackageDescription: 16-Pin Plastic Small Outline, Body 9.9 x 3.9 mm, Pitch 1.27 mm; Supplier 1: Digi-Key; Supplier Part Number 1: LT4356HS-1#PBF-ND; Supplier 2: Newark; Supplier Part Number 2: 44P4043; Fault: no; Foldback: yes; Power Good: no; Reset: no; RoHS: TRUE; Mounting Technology: Surface Mount; ComponentLink1Description: Manufacturer URL; ComponentLink1URL: http://www.linear.com/; ComponentLink2Description: Datasheet; ComponentLink2URL: http://cds.linear.com/docs/en/datasheet/4356fa.pdf; ComponentLink3Description: Package Specification; ComponentLink3URL: http://cds.linear.com/docs/en/packaging/S16%2005-08-1610%20Rev%20G.pdf
footprint LT-S-16_N (SOP, 16-Leads, Body 10x4mm, Pitch 1.27mm, IPC Medium Density)
footprint LT-S-16_L (SOP, 16-Leads, Body 10x4mm, Pitch 1.27mm, IPC High Density)
footprint LT-S-16_M (SOP, 16-Leads, Body 10x4mm, Pitch 1.27mm, IPC Low Density)
pins: 1 TMR (in) "Fault Timer Input. Connect a capacitor between this pin and ground to set the times for early warning, fault and cooldown periods. The current charging up this pin during fault conditions depends on the voltage difference (See Datasheet)", 2 FB (in) "Voltage Regulator Feedback Input. Connect this pin to the center tap of the output resistive divider connected between the OUT pin and ground. During an overvoltage condition, the GATE pin is servoed to maintain a 1.25V (See Datasheet)", 3 NC, 4 OUT (in) "Output Voltage Sense Input. This pin senses the voltage at the source of the N-channel MOSFET and sets the fault timer current. When the OUT pin voltage reaches 0.7V away from VCC, the EN pin goes high impedance.", 5 GATE (out) "N-channel MOSFET Gate Drive Output. The GATE pin is pulled up by an internal charge pump current source and clamped to 14V above the OUT pin. Both voltage and current amplifiers control the GATE pin to regulate the output (See Datasheet)", 6 NC, 7 SNS (in) "Current Sense Input. Connect this pin to the output of the current sense resistor. The current limit circuit controls the GATE pin to limit the sense voltage between VCC and SNS pins to 50mV. At the same time the sense (See Datasheet)", 8 VCC (power) "Positive Supply Voltage Input. The positive supply input ranges from 4V to 80V for normal operation. It can also be pulled below ground potential by up to 60V during a reverse battery condition, without damaging the part. (See Datasheet)", 9 ~{SHDN} (in) "Shutdown Control Input. The LT4356 can be shut down to a low current mode by pulling the S\H\D\N\ pin below 0.4V. Pull this pin above 2.1V or disconnect it and allow the internal current source to turn the part back on. The (See Datasheet)", 10 ~{FLT} (hiz) "Open-Collector Fault Output. This pin pulls low after the voltage at the TMR pin has reached the fault threshold of 1.25V. It indicates the pass transistor is about to turn off because either the supply voltage has stayed at (See Datasheet)", 11 EN (hiz) "Open-Collector Enable Output. The EN pin goes high impedance when the voltage at the OUT pin is above (VCC - 0.7V), indicating the external MOSFET is fully on. The state of the pin is latched until the OUT pin voltage resets (See Datasheet)", 12 GND (power) "Device Ground.", 13 NC, 14 AOUT (oc) "Amplifier Output. Open collector output of the auxiliary amplifier. It is capable of sinking up to 2mA from 80V. The negative input of the amplifier is internally connected to a 1.25V reference.", 15 NC, 16 IN+ (in) "Positive Input of the Auxiliary Amplifier. This amplifier can be used as a level detection comparator with external hysteresis or linear regulator controlling an external PNP transistor. This pin is clamped internally to 7V. (See Datasheet)"